# Altium integrated library Transistors.IntLib: 45 symbols
Pins are listed as number, name and electrical type; pins without a type are passive.

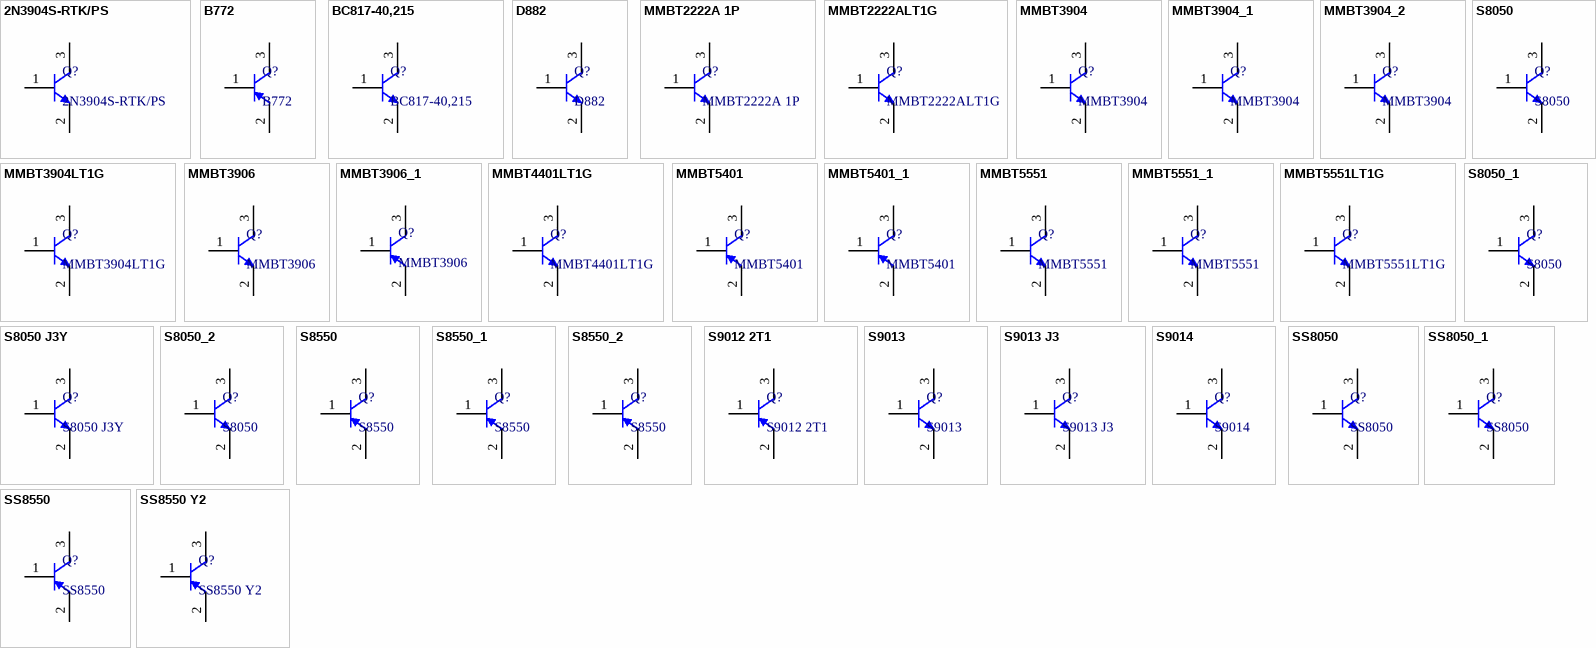
[diagram p0: symbols 2N3904S-RTK/PS to SS8550 Y2]

## 2N3904S-RTK/PS
designator Q?
KEC 2N3904S-RTK/PS  SOT-23; 类别: 三极管; 子类别: NPN; 集电极电流: 200mA; 集射极击穿电压: 40V; 耗散功率: 350mW; 特征频率: 300MHz; 数量: 1个NPN; 直流电流增益: 100@10mA,1V; 制造商: KEC; 封装: SOT-23
footprint KEC-SOT23 (KEC SOT23封装 推荐焊盘)
pins: 1 B, 2 E, 3 C

## B772
designator Q?
CJ(江苏长电/长晶)  B772 RANGE:160-320 SOT-89-3L; 类别: 三极管; 子类别: PNP; 集电极电流: 3A; 集射极击穿电压: 30V; 耗散功率: 500mW; 特征频率: 50MHz; 数量: 1个PNP; 直流电流增益: 500mV@2A,0.2A; 制造商: CJ(江苏长电/长晶); 封装: SOT-89-3L
footprint CJ-SOT-89-3L (CJ(江苏长电/长晶) SOT-89-3L封装 推荐焊盘)
pins: 1 B, 2 E, 3 C

## BC817-40,215
designator Q?
Nexperia(安世) BC817-40,215  OT-23; 封装: SOT-23; 类别: 三极管; 子类别: NPN; 集电极电流: 500mA; 集射极击穿电压: 45V; 耗散功率: 345mW; 特征频率: 100MHz; 数量: 1个NPN; 直流电流增益: 250@100mA,1V; 制造商: Nexperia(安世)
footprint Nexperia-SOT23-Reflow (Nexperia SOT23封装 回流焊 推荐焊盘)
footprint Nexperia-SOT23-Wave (Nexperia SOT23封装 波峰焊 推荐焊盘)
pins: 1 B, 2 E, 3 C

## D882
designator Q?
CJ(江苏长电/长晶)  RANGE:160-320 SOT-89-3L; 类别: 三极管; 子类别: NPN; 集电极电流: 3A; 集射极击穿电压: 30V; 耗散功率: 500mW; 特征频率: 50MHz; 数量: 1个NPN; 直流电流增益: 160@1A,2V; 制造商: CJ(江苏长电/长晶); 封装: SOT-89-3L
footprint CJ-SOT-89-3L (CJ(江苏长电/长晶) SOT-89-3L封装 推荐焊盘)
pins: 1 B, 2 E, 3 C

## MMBT2222A 1P
designator Q?
CJ(江苏长电/长晶) MMBT2222A 1P RANGE:100-300 SOT-23; 类别: 三极管; 子类别: NPN; 集电极电流: 600mA; 集射极击穿电压: 40V; 耗散功率: 200mW; 特征频率: 100MHz; 数量: 1个NPN; 直流电流增益: 100@150mA,10V; 制造商: CJ(江苏长电/长晶); 封装: SOT-23
footprint CJ-SOT23 (CJ(江苏长电/长晶) SOT3封装 推荐焊盘)
pins: 1 B, 2 E, 3 C

## MMBT2222ALT1G
designator Q?
onsemi(安森美) MMBT2222ALT1G  RANGE:100-300 SOT-23; 类别: 三极管; 子类别: NPN; 集电极电流: 600mA; 集射极击穿电压: 40V; 耗散功率: 225mW; 特征频率: 300MHz; 数量: 1个NPN; 直流电流增益: 35@0.1mA,10V; 制造商: onsemi(安森美); 封装: SOT-23
footprint onsemi-SOT23 (onsemi SOT23封装 推荐焊盘)
pins: 1 B, 2 E, 3 C

## MMBT3904
designator Q?
CJ(江苏长电/长晶) MMBT3904  RANGE:100-300 SOT-23; 类别: 三极管; 子类别: NPN; 集电极电流: 200mA; 集射极击穿电压: 40V; 耗散功率: 200mW; 特征频率: 300MHz; 数量: 1个NPN; 直流电流增益: 100@10mA,1V; 制造商: CJ(江苏长电/长晶); 封装: SOT-23
footprint CJ-SOT23 (CJ(江苏长电/长晶) SOT3封装 推荐焊盘)
pins: 1 B, 2 E, 3 C

## MMBT3904_1
designator Q?, comment MMBT3904
宏嘉诚 MMBT3904  RANGE:200-300 SOT-23; 类别: 三极管; 子类别: NPN; 集电极电流: 200mA; 集射极击穿电压: 40V; 耗散功率: 200mW; 特征频率: 300MHz; 数量: 1个NPN; 直流电流增益: 100@10mA,1.0V; 制造商: 宏嘉诚; 封装: SOT-23
footprint HJC-SOT23 (宏嘉诚 SOT23封装 推荐焊盘)
pins: 1 B, 2 E, 3 C

## MMBT3904_2
designator Q?, comment MMBT3904
HXY MOSFET(华轩阳电子) 这款NPN型三极管具有0.2A的电流和40V的电压处理能力，放大倍数介于100至300之间，适用于高速操作，频率可达300MHz。它为电子设备提供了可靠的性能，适合多种应用需求，确保电路的稳定性和高效性。(MMBT3904LT1G); 封装: SOT-23; 类别: 三极管; 子类别: NPN; 集电极电流: 200mA; 集射极击穿电压: 40V; 耗散功率: 200mW; 特征频率: 300MHz; 数量: 1个NPN; 直流电流增益: 100@10mA,1.0V; 制造商: HXY MOSFET(华轩阳电子)
footprint HXY-SOT23 (HXY MOSFET SOT23封装 推荐焊盘)
pins: 1 B, 2 E, 3 C

## MMBT3904LT1G
designator Q?
onsemi(安森美) MMBT3904LT1G / SOT-23; 类别: 三极管; 子类别: NPN; 集电极电流: 200mA; 集射极击穿电压: 40V; 耗散功率: 225mW; 特征频率: 300MHz; 数量: 1个NPN; 直流电流增益: 40@0.1mA,1.0V; 制造商: onsemi(安森美); 封装: SOT-23
footprint onsemi-SOT23 (onsemi SOT23封装 推荐焊盘)
pins: 1 B, 2 E, 3 C

## MMBT3906
designator Q?
宏嘉诚 MMBT3906 SOT-23; 类别: 三极管; 子类别: NPN; 集电极电流: 200mA; 集射极击穿电压: 40V; 耗散功率: 200mW; 特征频率: 300MHz; 数量: 1个NPN; 直流电流增益: 100@10mA,1.0V; 制造商: 宏嘉诚; 封装: SOT-23
footprint HJC-SOT23 (宏嘉诚 SOT23封装 推荐焊盘)
pins: 1 B, 2 E, 3 C

## MMBT3906_1
designator Q?, comment MMBT3906
HXY MOSFET(华轩阳电子)MMBT3906 SOT-23; 类别: 三极管; 子类别: PNP; 集电极电流: 200mA; 集射极击穿电压: 40V; 耗散功率: 200mW; 特征频率: 300MHz; 数量: 1个PNP; 直流电流增益: 100@10mA,1.0V; 制造商: HXY MOSFET(华轩阳电子); 封装: SOT-23
footprint HXY-SOT23 (HXY MOSFET SOT23封装 推荐焊盘)
pins: 1 B, 2 E, 3 C

## MMBT4401LT1G
designator Q?
onsemi(安森美) MMBT4401LT1G  RANGE:100-300 SOT-23; 类别: 三极管; 子类别: NPN; 集电极电流: 600mA; 集射极击穿电压: 40; 耗散功率: 225mW; 特征频率: 250MHz; 数量: 1个NPN; 直流电流增益: 750mV@500mA,50mA; 制造商: onsemi(安森美); 封装: SOT-23
footprint onsemi-SOT23 (onsemi SOT23封装 推荐焊盘)
pins: 1 B, 2 E, 3 C

## MMBT5401
designator Q?
CJ(江苏长电/长晶) MMBT5401 RANGE:200-300 SOT-23; 类别: 三极管; 子类别: PNP; 集电极电流: 600mA; 集射极击穿电压: 150V; 耗散功率: 300mW; 特征频率: 100MHz; 数量: 1个PNP; 直流电流增益: 100@10mA,5V; 制造商: CJ(江苏长电/长晶); 封装: SOT-23
footprint CJ-SOT23 (CJ(江苏长电/长晶) SOT3封装 推荐焊盘)
pins: 1 B, 2 E, 3 C

## MMBT5401_1
designator Q?, comment MMBT5401
宏嘉诚 SS8050 RANGE:100-300 SOT-23; 类别: 三极管; 子类别: PNP; 集电极电流: 600mA; 集射极击穿电压: 160V; 耗散功率: 300mW; 特征频率: 100MHz; 数量: 1个PNP; 直流电流增益: 100@10mA,5.0V; 制造商: 宏嘉诚; 封装: SOT-23
footprint CJ-SOT23 (CJ(江苏长电/长晶) SOT3封装 推荐焊盘)
footprint HJC-SOT23
pins: 1 B, 2 E, 3 C

## MMBT5551
designator Q?
CJ(江苏长电/长晶) MMBT5551  RANGE:100-300 SOT-23; 类别: 三极管; 子类别: NPN; 集电极电流: 600mA; 集射极击穿电压: 160V; 耗散功率: 300mW; 特征频率: 300MHz; 数量: 1个NPN; 直流电流增益: 200@10mA,5V; 制造商: CJ(江苏长电/长晶); 封装: SOT-23
footprint CJ-SOT23 (CJ(江苏长电/长晶) SOT3封装 推荐焊盘)
pins: 1 B, 2 E, 3 C

## MMBT5551_1
designator Q?, comment MMBT5551
宏嘉诚) MMBT5551  RANGE:100-300 SOT-23; 类别: 三极管; 子类别: NPN; 集电极电流: 600mA; 集射极击穿电压: 160V; 耗散功率: 300mW; 特征频率: 300MHz; 数量: 1个NPN; 直流电流增益: 100@10mA,5.0V; 制造商: 宏嘉诚; 封装: SOT-23
footprint HJC-SOT23 (宏嘉诚 SOT23封装 推荐焊盘)
pins: 1 B, 2 E, 3 C

## MMBT5551LT1G
designator Q?
onsemi(安森美) MMBT5551LT1G  RANGE:100-300 SOT-23; 类别: 三极管; 子类别: NPN; 集电极电流: 600mA; 集射极击穿电压: 160V; 耗散功率: 225mW; 特征频率: 300MHz; 数量: 1个NPN; 直流电流增益: 80@10mA,5.0V; 制造商: onsemi(安森美); 封装: SOT-23
footprint onsemi-SOT23 (onsemi SOT23封装 推荐焊盘)
pins: 1 B, 2 E, 3 C

## S8050
designator Q?
CJ(江苏长电/长晶) S8050 RANGE:120-200 SOT-23; 类别: 三极管; 子类别: NPN; 集电极电流: 500mA; 集射极击穿电压: 25V; 耗散功率: 300mW; 特征频率: 150MHz; 数量: 1个NPN; 直流电流增益: 600mV@500mA,50mA; 制造商: CJ(江苏长电/长晶); 封装: SOT-23
footprint CJ-SOT23 (CJ(江苏长电/长晶) SOT3封装 推荐焊盘)
pins: 1 B, 2 E, 3 C

## S8050 J3Y
designator Q?
CJ(江苏长电/长晶) SS8050 RANGE:200-350 SOT-23; 类别: 三极管; 子类别: NPN; 集电极电流: 500mA; 集射极击穿电压: 25V; 耗散功率: 300mW; 特征频率: 150MHz; 数量: 1个NPN; 直流电流增益: 200@500mA,1V; 制造商: CJ(江苏长电/长晶); 封装: SOT-23
footprint CJ-SOT23 (CJ(江苏长电/长晶) SOT3封装 推荐焊盘)
pins: 1 B, 2 E, 3 C

## S8050_1
designator Q?, comment S8050
宏嘉诚 S8050 RANGE:200-350 SOT-23; 类别: 三极管; 子类别: NPN; 集电极电流: 500mA; 集射极击穿电压: 25V; 耗散功率: 300mW; 特征频率: 100MHz; 数量: 1个NPN; 直流电流增益: 120@50mA,1.0; 制造商: 宏嘉诚; 封装: SOT-23
footprint HJC-SOT23 (宏嘉诚 SOT23封装 推荐焊盘)
pins: 1 B, 2 E, 3 C

## S8050_2
designator Q?, comment S8050
HXY MOSFET(华轩阳电子) 这款NPN型三极管具有0.5A的电流和25V的电压处理能力，放大倍数介于200-350之间，适用于高速操作，频率可达150MHz。它为电子设备提供了可靠的性能，适合多种应用需求，确保电路的稳定性和高效性。(MPS8050S-D-RTK/P); 封装: SOT-23; 类别: 三极管; 子类别: NPN; 集电极电流: 500mA; 集射极击穿电压: 25V; 耗散功率: 300mW; 特征频率: 150MHz; 数量: 1个NPN; 直流电流增益: 120@50mA,1V; 制造商: HXY MOSFET(华轩阳电子)
footprint HXY-SOT23 (HXY MOSFET SOT23封装 推荐焊盘)
pins: 1 B, 2 E, 3 C

## S8550
designator Q?
CJ(江苏长电/长晶) SS8050 Y2 RANGE:120-200 SOT-23; 类别: 三极管; 子类别: PNP; 集电极电流: 500mA; 集射极击穿电压: 25V; 耗散功率: 300mW; 特征频率: 150MHz; 数量: 1个PNP; 直流电流增益: 600mV@500mA,50mA; 制造商: CJ(江苏长电/长晶); 封装: SOT-23
footprint CJ-SOT23 (CJ(江苏长电/长晶) SOT3封装 推荐焊盘)
pins: 1 B, 2 E, 3 C

## S8550_1
designator Q?, comment S8550
宏嘉诚 SS8050 2TY RANGE:200-350 SOT-23; 类别: 三极管; 子类别: PNP; 集电极电流: 500mA; 集射极击穿电压: 25V; 耗散功率: 300mW; 特征频率: 150MHz; 数量: 1个PNP; 直流电流增益: 120@500mA,1.0V; 制造商: 宏嘉诚; 封装: SOT-23
footprint CJ-SOT23 (CJ(江苏长电/长晶) SOT3封装 推荐焊盘)
footprint HJC-SOT23
pins: 1 B, 2 E, 3 C

## S8550_2
designator Q?, comment S8550
HXY MOSFET(华轩阳电子) 这款三极管为PNP型，适用于精确控制小电流。其电流为0.5A，电压可达25V，放大倍数介于200-350之间，最高频率响应为150MHz。适用于通信、仪表及消费电子等领域，确保信号处理的稳定性和精确性。(MPS8550S-D-RTK/P); 封装: SOT-23; 类别: 三极管; 子类别: PNP; 集电极电流: 500mA; 集射极击穿电压: 25V; 耗散功率: 300mW; 特征频率: 150MHz; 数量: 1个PNP; 直流电流增益: 120@50mA,1V; 制造商: HXY MOSFET(华轩阳电子)
footprint HXY-SOT23 (HXY MOSFET SOT23封装 推荐焊盘)
pins: 1 B, 2 E, 3 C

## S9012 2T1
designator Q?
CJ(江苏长电/长晶) S9012 2T1  RANGE:200-350 SOT-23; 类别: 三极管; 子类别: PNP; 集电极电流: 500mA; 集射极击穿电压: 25V; 耗散功率: 300mW; 特征频率: 150MHz; 数量: 1个PNP; 直流电流增益: 120@50mA,1V; 制造商: CJ(江苏长电/长晶); 封装: SOT-23
footprint CJ-SOT23 (CJ(江苏长电/长晶) SOT3封装 推荐焊盘)
pins: 1 B, 2 E, 3 C

## S9013
designator Q?
宏嘉诚 S9013 RANGE:200-350 SOT-23; 类别: 三极管; 子类别: NPN; 集电极电流: 500mA; 集射极击穿电压: 25V; 耗散功率: 300mW; 特征频率: 150MHz; 直流电流增益: 120@50mA,1.0V; 制造商: 宏嘉诚; 封装: SOT-23; 数量: NPN
footprint HJC-SOT23 (宏嘉诚 SOT23封装 推荐焊盘)
pins: 1 B, 2 E, 3 C

## S9013 J3
designator Q?
CJ(江苏长电/长晶) S9013 J3 RANGE:200-350 SOT-23; 类别: 三极管; 子类别: NPN; 集电极电流: 500mA; 集射极击穿电压: 25V; 耗散功率: 300mW; 特征频率: 150MHz; 直流电流增益: 120@50mA,1V; 制造商: CJ(江苏长电/长晶); 封装: SOT-23; 数量: NPN
footprint CJ-SOT23 (CJ(江苏长电/长晶) SOT3封装 推荐焊盘)
pins: 1 B, 2 E, 3 C

## S9014
designator Q?
CJ(江苏长电/长晶) S9014 RANGE:200-350 SOT-23; 类别: 三极管; 子类别: NPN; 集电极电流: 100mA; 集射极击穿电压: 45V; 耗散功率: 200mW; 特征频率: 150MHz; 数量: 1个NPN; 直流电流增益: 200@1mA,5V; 制造商: CJ(江苏长电/长晶); 封装: SOT-23
footprint CJ-SOT23 (CJ(江苏长电/长晶) SOT3封装 推荐焊盘)
pins: 1 B, 2 E, 3 C

## SS8050
designator Q?
CJ(江苏长电/长晶) SS8050 RANGE:200-350 SOT-23; 类别: 三极管; 子类别: NPN; 集电极电流: 1.5A; 集射极击穿电压: 25V; 耗散功率: 300mW; 特征频率: 100MHz; 数量: 1个NPN; 直流电流增益: 200@800mA,1V; 制造商: CJ(江苏长电/长晶); 封装: SOT-23
footprint CJ-SOT23 (CJ(江苏长电/长晶) SOT3封装 推荐焊盘)
pins: 1 B, 2 E, 3 C

## SS8050_1
designator Q?, comment SS8050
宏嘉诚 SS8050 RANGE:200-350 SOT-23; 类别: 三极管; 子类别: NPN; 集电极电流: 1.5A; 集射极击穿电压: 25V; 耗散功率: 300mW; 特征频率: 100MHz; 数量: 1个NPN; 直流电流增益: 120@100mA,1.0V; 制造商: 宏嘉诚; 封装: SOT-23
footprint HJC-SOT23 (宏嘉诚 SOT23封装 推荐焊盘)
pins: 1 B, 2 E, 3 C

## SS8550
designator Q?
宏嘉诚 SS8050 RANGE:200-350 SOT-23; 类别: 三极管; 子类别: PNP; 集电极电流: 1.5A; 集射极击穿电压: 25V; 耗散功率: 300mW; 特征频率: 100MHz; 数量: 1个PNP; 直流电流增益: 120@100mA,1.0V; 制造商: 宏嘉诚; 封装: SOT-23
footprint HJC-SOT23 (宏嘉诚 SOT23封装 推荐焊盘)
pins: 1 B, 2 E, 3 C

## SS8550 Y2
designator Q?
CJ(江苏长电/长晶) SS8050 Y2 RANGE:200-350 SOT-23; 类别: 三极管; 子类别: PNP; 集电极电流: 1.5A; 集射极击穿电压: 25V; 耗散功率: 300mW; 特征频率: 100MHz; 数量: 1个PNP; 直流电流增益: 200@100mA,1V; 制造商: CJ(江苏长电/长晶); 封装: SOT-23
footprint CJ-SOT23 (CJ(江苏长电/长晶) SOT3封装 推荐焊盘)
pins: 1 B, 2 E, 3 C


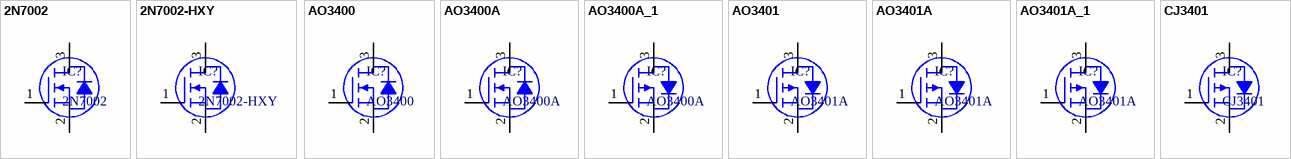
[diagram p1: symbols 2N7002 to CJ3401]

## 2N7002
designator IC?
CJ(江苏长电/长晶) SOT-23 N沟道,60V,0.115A,7Ω@10V; 类别: 场效应管; 连续漏极电流: 115mA; 导通电阻: 5Ω@10V; 耗散功率: 225mW; 阈值电压: 2.5V; 输入电容: 50pF; 反向传输电容: 5pF; 数量: 1个N沟道; 输出电容: 25pF; 制造商: CJ(江苏长电/长晶); 封装: SOT-23; 子类别: N沟道; 漏源电压: 60V
footprint CJ-SOT23 (CJ(江苏长电/长晶) SOT23封装 推荐焊盘)
pins: 1 G, 2 S, 3 D

## 2N7002-HXY
designator IC?
HXY MOSFET(华轩阳电子) SOT-23 N沟道,60V,0.115A,7Ω@10V; 类别: 场效应管; 连续漏极电流: 300mA; 导通电阻: 2Ω@10V,0.1A; 耗散功率: 350mW; 阈值电压: 1.9V; 输入电容: 50pF; 反向传输电容: 4.2pF; 数量: 1个N沟道; 输出电容: 25pF; 制造商: HXY MOSFET(华轩阳电子); 封装: SOT-23; 子类别: N沟道; 漏源电压: 60V
footprint HJC-SOT23 (宏嘉诚 SOT23封装 推荐焊盘)
pins: 1 G, 2 S, 3 D

## AO3400
designator IC?
GOODWORK(固得沃克) SOT-23 1个N沟道 耐压:30V 电流:5.7A; 类别: 场效应管; 子类别: N沟道; 漏源电压: 30V; 连续漏极电流: 5.8A; 导通电阻: 28mΩ@10V; 耗散功率: 1.5W; 阈值电压: 1.4V@250uA; 输入电容: 1.05nF; 反向传输电容: 77pF@15V; 输出电容: 99pF; 制造商: GOODWORK(固得沃克); 封装: SOT-23; 数量: 1个N沟道
footprint GOODWORK-SOT23 (GOODWORK(固得沃克) SOT23 根据尺寸生成)
pins: 1 G, 2 S, 3 D

## AO3400A
designator IC?
CJ(江苏长电/长晶) SOT-23 1个N沟道 耐压:30V 电流:5.7A; 类别: 场效应管; 子类别: N沟道; 漏源电压: 30V; 连续漏极电流: 5.7A; 导通电阻: 26.5mΩ@10V; 耗散功率: 1.4W; 阈值电压: 1.45V@250uA; 输入电容: 630pF; 反向传输电容: 50pF; 输出电容: 75pF; 制造商: CJ(江苏长电/长晶); 封装: SOT-23; 数量: 1个N沟道
footprint CJ-SOT23 (CJ(江苏长电/长晶) SOT23封装 推荐焊盘)
pins: 1 G, 2 S, 3 D

## AO3400A_1
designator IC?, comment AO3400A
UMW(友台半导体) 1个N沟道 耐压:30V 电流:5.8A; 封装: SOT-23; 类别: 场效应管; 子类别: N沟道; 漏源电压: 30V; 连续漏极电流: 5.8A; 导通电阻: 27mΩ@10V; 耗散功率: 1.4W; 阈值电压: 1.4V; 输入电容: 823pF; 反向传输电容: 77pF; 输出电容: 99pF; 制造商: UMW(友台半导体); 数量: 1个N沟道
footprint UMW-SOT23 (UMW(友台半导体) SOT23 根据尺寸生成)
pins: 1 G, 2 S, 3 D

## AO3401
designator IC?, comment AO3401A
TWGMC(台湾迪嘉) SOT-23 1个P沟道 耐压:30V 电流:4.2A; 类别: 场效应管; 子类别: P沟道; 漏源电压: 30V; 连续漏极电流: 4.2; 导通电阻: 65mΩ@10V,4.2A; 耗散功率: 350mW; 阈值电压: 1.3V; 输入电容: 954pF; 反向传输电容: 77pF; 输出电容: 115pF; 制造商: TWGMC(台湾迪嘉); 封装: SOT-23; 数量: 1个P沟道
footprint AOS-SOT23 (AOS SOT23封装 推荐焊盘)
pins: 1 G, 2 S, 3 D

## AO3401A
designator IC?
AOS SOT-23 P沟道,-30V,-4A,50mΩ@-10V; 类别: 场效应管; 漏源电压: 30V; 连续漏极电流: 4A; 导通电阻: 85mΩ@2.5V,2.5A; 耗散功率: 1.4w; 阈值电压: 1.3V@250uA; 输入电容: 645pF; 反向传输电容: 55pF; 数量: 1个P沟道; 输出电容: 80pF; 制造商: AOS; 封装: SOT-23; 子类别: P沟道
footprint AOS-SOT23 (AOS SOT23封装 推荐焊盘)
pins: 1 G, 2 S, 3 D

## AO3401A_1
designator IC?, comment AO3401A
GOODWORK(固得沃克) 1个P沟道 耐压:30V 电流:4.2A适用于电源开关和信号控制; 封装: SOT-23; 类别: 场效应管; 子类别: P沟道; 漏源电压: 30V; 连续漏极电流: 4.2A; 导通电阻: 85mΩ@2.5V,2.5A; 耗散功率: 1.2w; 阈值电压: 1.3V@250uA; 输入电容: 1.05nF@15V; 反向传输电容: 85pF@15V; 输出电容: 85pF; 制造商: GOODWORK(固得沃克); 数量: 1个P沟道
footprint GOODWORK-SOT23 (GOODWORK(固得沃克) SOT23 根据尺寸生成)
pins: 1 G, 2 S, 3 D

## CJ3401
designator IC?
CJ(江苏长电/长晶) SOT-23 P道,耐压:30V 电流:4.2A; 类别: 场效应管; 子类别: P沟道; 漏源电压: 30V; 连续漏极电流: 4.2A; 导通电阻: 65mΩ@-10V; 耗散功率: 350mW; 阈值电压: 1.3V@250uA; 输入电容: 954pF; 反向传输电容: 77pF; 数量: 1个P沟道; 输出电容: 115pF; 制造商: CJ(江苏长电/长晶); 封装: SOT-23
footprint CJ-SOT23 (CJ(江苏长电/长晶) SOT23封装 推荐焊盘)
pins: 1 G, 2 S, 3 D


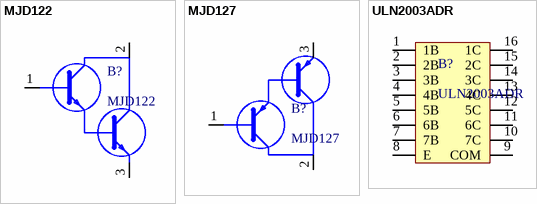
[diagram p2: symbols MJD122 to ULN2003ADR]

## MJD122
designator B?
CJ(江苏长电/长晶) NPN,Vceo=100V,Ic=8A; 封装: TO-252-2; 类别: 达林顿管; 子类别: NPN单管; 集射极击穿电压: 100V; 直流电流增益: 12000; 耗散功率: 1.5W; 集电极电流: 8A; 集电极截止电流: 10μA; 集射极饱和电压: 4V; 制造商: CJ(江苏长电/长晶)
footprint CJ-TO-252-2 (CJ(江苏长电/长晶) TO-252-2 推荐焊盘)
pins: 1 B, 2 C, 3 E

## MJD127
designator B?
CJ(江苏长电/长晶) PNP,Vceo=-100V,Ic=-8A; 封装: TO-252-2; 类别: 达林顿管; 子类别: PNP单管; 直流电流增益: 12000; 耗散功率: 1.5W; 集射极击穿电压: 100V; 集射极饱和电压: 4.5V; 集电极截止电流: 10μA; 集电极电流: 8A; 制造商: CJ(江苏长电/长晶)
footprint CJ-TO-252-2 (CJ(江苏长电/长晶) TO-252-2 推荐焊盘)
pins: 1 B, 2 C, 3 E

## ULN2003ADR
designator B?
TI(德州仪器) ULN2003A 高电压、大电流达林顿晶体管阵列; 子类别: NPN达林顿阵列; 封装: SOIC-16; 类别: 达林顿管; 集射极击穿电压: 50V; 集射极饱和电压: 1.6V; 集电极截止电流: 500μA; 集电极电流: 500mA; 制造商: TI(德州仪器)
footprint TI-SOIC16 (TI(德州仪器) SOIC-16 推荐封装)
pins: 1 1B, 2 2B, 3 3B, 4 4B, 5 5B, 6 6B, 7 7B, 8 E, 9 COM, 10 7C, 11 6C, 12 5C, 13 4C, 14 3C, 15 2C, 16 1C